# EAGLE library part BACKPLANE_ESC (library SQT-106-01-F-D)
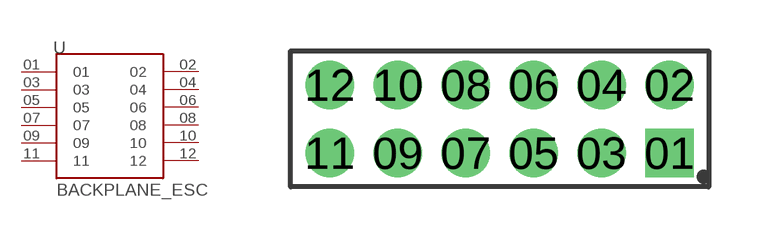
[diagram p0: symbol with the pads of SAMTEC_SQT-107-01-F-D; footprint SAMTEC_SQT-107-01-F-D]

Designator prefix -

## BACKPLANE_ESC  [SAMTEC_SQT-107-01-F-D]
01  01  pas
02  02  pas
03  03  pas
04  04  pas
05  05  pas
06  06  pas
07  07  pas
08  08  pas
09  09  pas
10  10  pas
11  11  pas
12  12  pas

## Footprint SAMTEC_SQT-107-01-F-D (pad centres in mm)
drill 0.91 pad 1.26 square: 01 5,-1
drill 0.91 pad 1.26: 02 5,1; 03 3,-1; 04 3,1; 05 1,-1; 06 1,1; 07 -1,-1; 08 -1,1; 09 -3,-1; 10 -3,1; 11 -5,-1; 12 -5,1